# EAGLE library part LTC1540I (library opamp_STE)
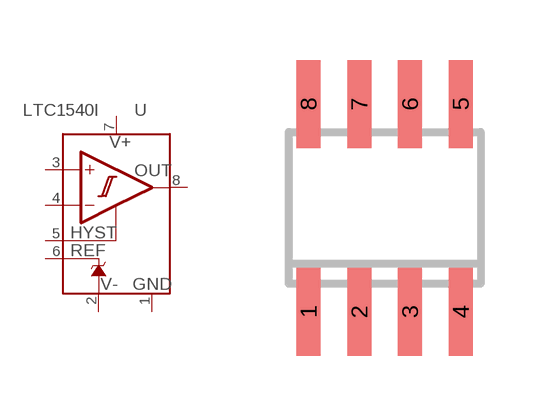
[diagram p0: symbol with the pads of SO08; footprint SO08]

Designator prefix -

## LTC1540IS8  [SO08]
1  GND  pwr
2  V-  pwr
3  IN+  in
4  IN-  in
5  HYST  in
6  REF  out
7  V+  pwr
8  OUT  out

## Footprint SO08 (pad centres in mm)
Small Outline Package 8 NS Package M08A
smd 0.6 x 2.2: 1 -1.905,-2.6; 2 -0.635,-2.6; 3 0.635,-2.6; 4 1.905,-2.6; 5 1.905,2.6; 6 0.635,2.6; 7 -0.635,2.6; 8 -1.905,2.6